# EAGLE library part 68710614022 (library Wuerth_Elektronik_eiCan_03_ZIF_Connectors_Flat_Flexible_Cable)
WR-FPC 0.5mm SMT ZIF Horizontal Top Contact, 6 Pins
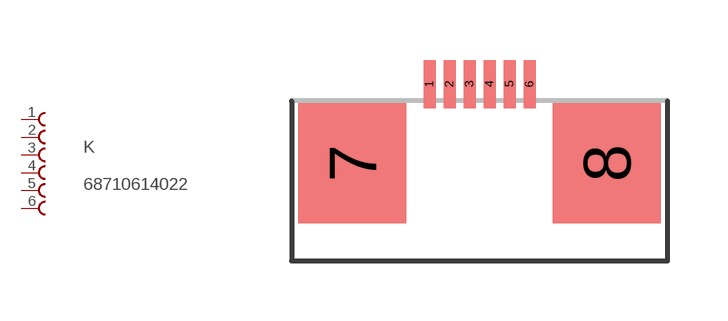
[diagram p33: symbol with the pads of 68710614022; footprint 68710614022]

Designator prefix K

## 68710614022  [68710614022]
1  1  pas
2  2  pas
3  3  pas
4  4  pas
5  5  pas
6  6  pas

## Footprint 68710614022 (pad centres in mm)
WR-FPC 0.5mm SMT ZIF Horizontal Top Contact, 6 Pins
smd 0.3 x 1.2: 1 0.25,0.54; 2 0.75,0.54; 3 1.25,0.54; 4 1.75,0.54; 5 2.25,0.54; 6 2.75,0.54
smd 2.7 x 3: 7 -1.68,-1.44; 8 4.68,-1.44